# Altium schematic symbol library TC_otii_stlink.SchLib: 24 symbols
Pins are listed as number, name and electrical type; pins without a type are passive.

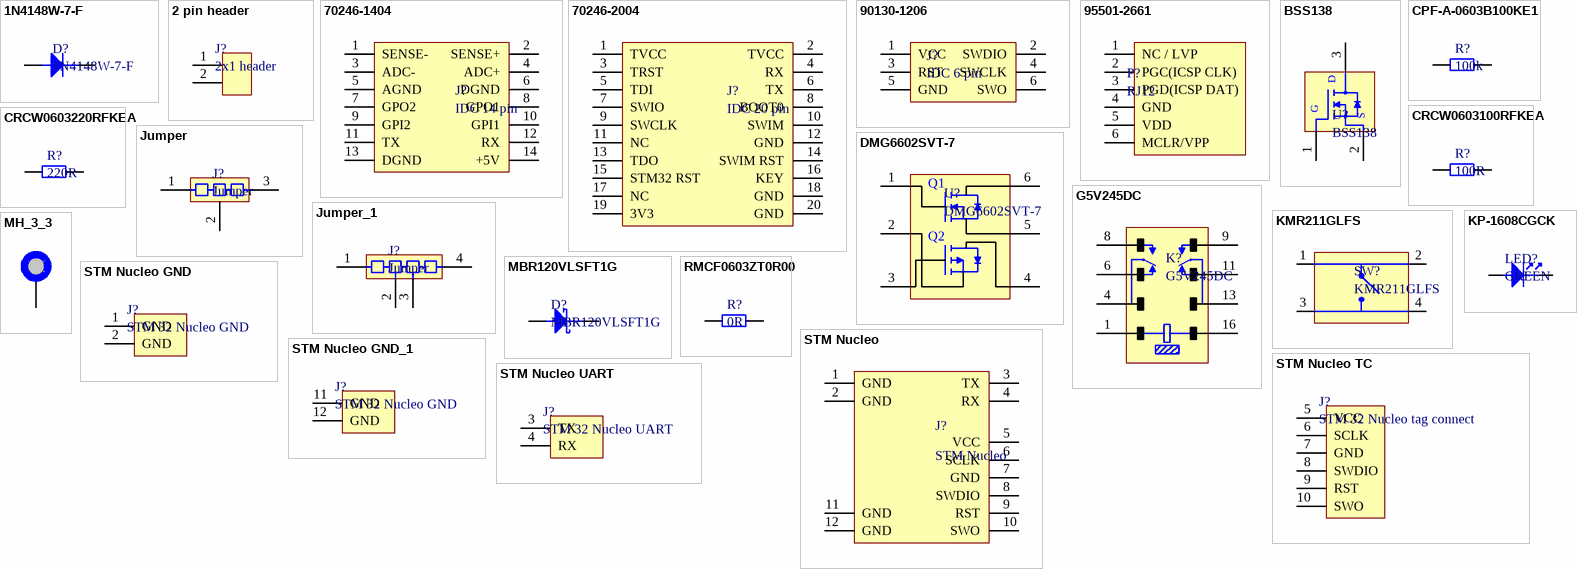
[diagram p0: symbols 1N4148W-7-F to STM Nucleo UART]

## 1N4148W-7-F
designator D?
DIODE GEN PURP 100V 300MA SOD123; Manufacturer: Diodes; Current Rating: 150mA; Max Surge Current: 2A; Peak Reverse Current: 1uA; Recovery Time: 4ns; Forward Voltage: 1.25V; Power Dissipation: 400mW; Element Configuration: Single; Polarity: Standard; Voltage Rating (DC): 75V; Capacitance: 2pF; Supplier 1: Farnell; Manufacturer Part Number: 1N4148W-7-F; Stock 1: 994731; Pricing 1: 5=0.155, 25=0.151, 100=0.0525, 250=0.0496, 500=0.0474, 1000=0.0247, 5000=0.0213 (EUR); Mount: Surface Mount; Number of Pins: 2; Weight: 0.000353oz; Contact Plating: Tin,Matte; Min Operating Temperature: -65°C; Max Operating Temperature: 150°C; Package Quantity: 3000; Packaging: Tape and Reel; Voltage: 100V; Forward Current: 150mA; Average Rectified Current: 300mA; Reverse Recovery Time: 4ns; Max Repetitive Reverse Voltage (Vrrm): 100V; Max Forward Surge Current (Ifsm): 2A; Peak Non-Repetitive Surge Current: 2A; Power Rating: 400mW; Output Current: 150mA; Max Reverse Voltage (DC): 100V; Length: 2.85mm; Height: 1.25mm; Width: 1.7mm; Radiation Hardening: No; Lead Free: Lead Free; REACH SVHC: No SVHC; ComponentLink1URL: https://www.diodes.com/assets/Datasheets/ds30086.pdf?src-supplier=Digi-Key; ComponentLink1Description: https://www.diodes.com/assets/Datasheets/ds30086.pdf?src-supplier=Digi-Key; ComponentLink2URL: http://www.farnell.com/datasheets/1915529.pdf?src-supplier=Element14; ComponentLink2Description: http://www.farnell.com/datasheets/1915529.pdf?src-supplier=Element14; ComponentLink3URL: https://www.diodes.com/assets/Datasheets/ds30086.pdf?src-supplier=Avnet; ComponentLink3Description: https://www.diodes.com/assets/Datasheets/ds30086.pdf?src-supplier=Avnet; ComponentLink4URL: http://www.mouser.com/ds/2/115/ds30086-60872.pdf?src-supplier=Mouser; ComponentLink4Description: http://www.mouser.com/ds/2/115/ds30086-60872.pdf?src-supplier=Mouser; ComponentLink5URL: https://www.diodes.com/assets/Datasheets/ds30086.pdf?src-supplier=Avnet+Europe; ComponentLink5Description: https://www.diodes.com/assets/Datasheets/ds30086.pdf?src-supplier=Avnet+Europe; ComponentLink6URL: https://www.diodes.com/assets/Datasheets/ds30086.pdf?src-supplier=Verical; ComponentLink6Description: https://www.diodes.com/assets/Datasheets/ds30086.pdf?src-supplier=Verical; Supplier Part Number 1: 1776392
footprint 1N4148W-7-F
pins: 1 Cathode, 2 Anode

## 2 pin header
designator J?, comment 2x1 header
footprint 2 pin
pins: 1, 2

## 70246-1404
designator J?, comment IDC 14 pin
Conn Shrouded Header (4 Sides) HDR 14 POS 2.54mm Solder ST Thru-Hole C-Grid® Frame; Manufacturer: Molex; Manufacturer Part Number: 70246-1404; Number of Contacts: 14; Max Voltage Rating (DC): 250V; Current Rating: 2.5A; Gender: Male; Contact Post Length: 3.43mm; Glow Wire Compliant: Non-compliant; Supplier 1: Farnell; Stock 1: 3001; Pricing 1: 1=1.55, 50=1.48, 100=1.42, 250=1.29, 500=1.17, 1000=0.966 (EUR); Mount: Through Hole; Contact Plating: Gold,Tin; Contact Material: Bronze,Gold; Housing Material: Polyester; Min Operating Temperature: -55°C; Max Operating Temperature: 120°C; Number of Rows: 2; Termination: Solder; Packaging: Tray; Number of Positions: 14; Orientation: Vertical; Voltage Rating: 250V; Voltage Rating (DC): 250V; Contact Gender: Male; Number of Circuits: 14; Pitch: 2.54mm; Row Spacing: 2.54mm; Contact Mating Length: 6.1mm; Radiation Hardening: No; REACH SVHC: Unknown; ELV: Compliant; Flammability Rating: UL94 V-0; ComponentLink1URL: http://www.farnell.com/datasheets/2051710.pdf?src-supplier=Element14; ComponentLink1Description: http://www.farnell.com/datasheets/2051710.pdf?src-supplier=Element14; ComponentLink2URL: http://www.molex.com/webdocs/datasheets/pdf/en-us/0702461404_PCB_HEADERS.pdf?src-supplier=Avnet; ComponentLink2Description: http://www.molex.com/webdocs/datasheets/pdf/en-us/0702461404_PCB_HEADERS.pdf?src-supplier=Avnet; ComponentLink3URL: http://uk.rs-online.com/webdocs/13c4/0900766b813c492f.pdf?src-supplier=RSComponents; ComponentLink3Description: http://uk.rs-online.com/webdocs/13c4/0900766b813c492f.pdf?src-supplier=RSComponents; ComponentLink4URL: http://www.mouser.com/ds/2/276/0702461404_PCB_HEADERS-172392.pdf?src-supplier=Mouser; ComponentLink4Description: http://www.mouser.com/ds/2/276/0702461404_PCB_HEADERS-172392.pdf?src-supplier=Mouser; ComponentLink5URL: http://www.molex.com/webdocs/datasheets/pdf/en-us/0702461404_PCB_HEADERS.pdf?src-supplier=Avnet+Europe; ComponentLink5Description: http://www.molex.com/webdocs/datasheets/pdf/en-us/0702461404_PCB_HEADERS.pdf?src-supplier=Avnet+Europe; Supplier Part Number 1: 1392520
footprint IDC 14 PIN
pins: 1 SENSE-, 2 SENSE+, 3 ADC-, 4 ADC+, 5 AGND, 6 DGND, 7 GPO2, 8 GPO1, 9 GPI2, 10 GPI1, 11 TX, 12 RX, 13 DGND, 14 +5V

## 70246-2004
designator J?, comment IDC 20 pin
Headers & Wire Housings 2.54mm CGrid Hdr Shr d /Slt .13AuLF 20Ckt; Manufacturer: Molex; Manufacturer Part Number: 70246-2004; Number of Contacts: 20; Max Voltage Rating (DC): 250V; Current Rating: 2.5A; Gender: Male; Glow Wire Compliant: Non-compliant; Supplier 1: Farnell; Stock 1: 2985; Pricing 1: 1=1.62, 50=1.52, 100=1.41, 250=1.28, 500=1.17, 1000=0.943 (EUR); Mount: Through Hole; Contact Plating: Gold; Contact Material: Gold,Bronze; Min Operating Temperature: -55°C; Max Operating Temperature: 120°C; Number of Rows: 2; Termination: Solder; Packaging: Tray; Number of Positions: 20; Orientation: Vertical; Package Quantity: 720; Voltage Rating (DC): 250V; Voltage Rating: 250V; Number of Circuits: 20; Pitch: 2.54mm; Radiation Hardening: No; REACH SVHC: Unknown; ELV: Compliant; Flammability Rating: UL94 V-0; ComponentLink1URL: http://www.farnell.com/datasheets/2051704.pdf?src-supplier=Element14; ComponentLink1Description: http://www.farnell.com/datasheets/2051704.pdf?src-supplier=Element14; ComponentLink2URL: http://www.mouser.com/ds/2/276/0702462004_PCB_HEADERS-150189.pdf?src-supplier=Mouser; ComponentLink2Description: http://www.mouser.com/ds/2/276/0702462004_PCB_HEADERS-150189.pdf?src-supplier=Mouser; ComponentLink3URL: http://www.molex.com/webdocs/datasheets/pdf/en-us/0702462004_PCB_HEADERS.pdf?src-supplier=Avnet+Europe; ComponentLink3Description: http://www.molex.com/webdocs/datasheets/pdf/en-us/0702462004_PCB_HEADERS.pdf?src-supplier=Avnet+Europe; ComponentLink4URL: http://www.molex.com/webdocs/datasheets/pdf/en-us/0702462004_PCB_HEADERS.pdf?src-supplier=Avnet; ComponentLink4Description: http://www.molex.com/webdocs/datasheets/pdf/en-us/0702462004_PCB_HEADERS.pdf?src-supplier=Avnet; ComponentLink5URL: http://uk.rs-online.com/webdocs/13c4/0900766b813c4938.pdf?src-supplier=RSComponents; ComponentLink5Description: http://uk.rs-online.com/webdocs/13c4/0900766b813c4938.pdf?src-supplier=RSComponents; Supplier Part Number 1: 1392410
footprint IDC 20 pin
pins: 1 TVCC, 2 TVCC, 3 TRST, 4 RX, 5 TDI, 6 TX, 7 SWIO, 8 BOOT0, 9 SWCLK, 10 SWIM, 11 NC, 12 GND, 13 TDO, 14 SWIM RST, 15 STM32 RST, 16 KEY, 17 NC, 18 GND, 19 3V3, 20 GND

## 90130-1206
designator J?, comment IDC 6 pin
Headers & Wire Housings 2.54MM CGRIDIII HDR 6P V DR SHRD AU-E; Manufacturer: Molex; Manufacturer Part Number: 90130-1206; Number of Contacts: 6; Max Voltage Rating (DC): 350.35kV; Contact Resistance: 20mR; Max Voltage Rating (AC): 500V; Current Rating: 3A; Voltage Rating: 350V; Max Current Rating: 3.9A; Insulation Resistance: 5GR; Gender: Male; Glow Wire Compliant: Non-compliant; Supplier 1: Farnell; Stock 1: 1896; Pricing 1: 1=1.07, 50=1, 100=0.934, 250=0.84, 500=0.775, 1000=0.619 (EUR); Mount: Through Hole; Contact Plating: Gold; Contact Material: Brass,Bronze,Copper; Housing Color: Black; Color: Black; Housing Material: Polyester; Material: Glass,Polyester; Min Operating Temperature: -55°C; Max Operating Temperature: 125°C; Number of Rows: 2; Termination: Solder; Packaging: Tray; Number of Positions: 6; Orientation: Vertical; Package Quantity: 2560; Number of Poles: 6; Voltage Rating (AC): 350V; Contact Gender: Male; Working Voltage: 350V; Voltage Rating (DC): 350V; Number of Circuits: 6; Length: 8mm; Height: 4.7mm; Pitch: 2.54mm; Row Spacing: 2.54mm; Depth: 3.94mm; Lead Pitch: 2.54mm; Radiation Hardening: No; REACH SVHC: Unknown; Lead Free: Lead Free; ComponentLink1URL: http://www.mouser.com/ds/2/276/0901301206_PCB_HEADERS-151694.pdf?src-supplier=Mouser; ComponentLink1Description: http://www.mouser.com/ds/2/276/0901301206_PCB_HEADERS-151694.pdf?src-supplier=Mouser; ComponentLink2URL: http://www.jameco.com/Jameco/Products/ProdDS/1978810.pdf?src-supplier=Jameco; ComponentLink2Description: http://www.jameco.com/Jameco/Products/ProdDS/1978810.pdf?src-supplier=Jameco; ComponentLink3URL: http://www.molex.com/webdocs/datasheets/pdf/en-us/0901301206_PCB_HEADERS.pdf?src-supplier=Avnet+Europe; ComponentLink3Description: http://www.molex.com/webdocs/datasheets/pdf/en-us/0901301206_PCB_HEADERS.pdf?src-supplier=Avnet+Europe; ComponentLink4URL: http://www.molex.com/webdocs/datasheets/pdf/en-us/0901301206_PCB_HEADERS.pdf?src-supplier=Avnet; ComponentLink4Description: http://www.molex.com/webdocs/datasheets/pdf/en-us/0901301206_PCB_HEADERS.pdf?src-supplier=Avnet; ComponentLink5URL: http://uk.rs-online.com/webdocs/13c4/0900766b813c4c7b.pdf?src-supplier=RSComponents; ComponentLink5Description: http://uk.rs-online.com/webdocs/13c4/0900766b813c4c7b.pdf?src-supplier=RSComponents; Supplier Part Number 1: 9733884
footprint IDC 6 pin
pins: 1 VCC, 2 SWDIO, 3 RST, 4 SWCLK, 5 GND, 6 SWO

## 95501-2661
designator P?, comment RJ12
MODULAR, JACK, THT, R/A, RJ11, 6P6C; Manufacturer: Molex; Manufacturer Part Number: 95501-2661; Shielding: Unshielded; Max Voltage Rating (DC): 125V; Number of Ports: 1; Current Rating: 1.5A; Gender: Female; Number of Contacts: 6; Insulation Resistance: 500MR; Pitch: 2.54mm; Approvals: UL; Supplier 1: Farnell; Stock 1: 7441; Pricing 1: 10=0.565, 100=0.492, 500=0.443, 1000=0.394, 2500=0.356, 5000=0.344 (EUR); Mount: Through Hole; Contact Plating: Gold; Contact Material: Copper Alloy,Bronze; Housing Material: Thermoplastic; Color: Black; Insulation Material: Polyester; Min Operating Temperature: -40°C; Max Operating Temperature: 80°C; Packaging: Tray; Package Quantity: 3276; Termination: Through Hole; Orientation: Right Angle; Voltage Rating (DC): 125V; Number of Positions: 6; Length: 13.21mm; Depth: 18.1mm; Width: 11.5mm; REACH SVHC: Unknown; Halogen Free: Low Halogen; Lead Free: Lead Free; Flammability Rating: UL94 V-0; ComponentLink1URL: http://uk.rs-online.com/webdocs/13c4/0900766b813c4eac.pdf?src-supplier=RSComponents; ComponentLink1Description: http://uk.rs-online.com/webdocs/13c4/0900766b813c4eac.pdf?src-supplier=RSComponents; ComponentLink2URL: http://www.farnell.com/cad/1597654.pdf?src-supplier=Element14; ComponentLink2Description: http://www.farnell.com/cad/1597654.pdf?src-supplier=Element14; ComponentLink3URL: http://www.mouser.com/ds/2/276/0955012661_MODULAR_JACKS_PLUG-177638.pdf?src-supplier=Mouser; ComponentLink3Description: http://www.mouser.com/ds/2/276/0955012661_MODULAR_JACKS_PLUG-177638.pdf?src-supplier=Mouser; ComponentLink4URL: http://www.onlinecomponents.com/productFiles/mf-MOL/360890955012661_modular_jacks_plug.pdf?src-supplier=Onlinecomponents.com; ComponentLink4Description: http://www.onlinecomponents.com/productFiles/mf-MOL/360890955012661_modular_jacks_plug.pdf?src-supplier=Onlinecomponents.com; Supplier Part Number 1: 1536490
footprint RJ12
pins: 1 NC / LVP, 2 PGC(ICSP CLK), 3 PGD(ICSP DAT), 4 GND, 5 VDD, 6 MCLR/VPP

## BSS138
designator U?
MOSFET N-CH 50V 220MA SOT-23; Manufacturer: ON Semiconductor / Fairchild; Rds On Max: 3.5R; Input Capacitance: 27pF; Nominal Vgs: 1.3V; Number of Elements: 1; Max Power Dissipation: 360mW; Rise Time: 9ns; Turn-Off Delay Time: 20ns; Turn-On Delay Time: 2.5ns; Element Configuration: Single; Gate to Source Voltage (Vgs): 20V; On-State Resistance: 6R; Supplier 1: Farnell; Manufacturer Part Number: BSS138; Stock 1: 727806; Pricing 1: 5=0.286, 50=0.261, 100=0.143, 500=0.0495, 1500=0.0464 (EUR); Mount: Surface Mount; Case/Package: SOT-23; Number of Pins: 3; Weight: 0.03g; Contact Plating: Tin,Matte; Min Operating Temperature: -55°C; Max Operating Temperature: 150°C; Packaging: Tape and Reel; Package Quantity: 1; Dual Supply Voltage: 50V; Drain to Source Voltage (Vdss): 50V; Continuous Drain Current (ID): 220mA; Drain to Source Breakdown Voltage: 50V; Fall Time: 9ns; Drain to Source Resistance: 3.5R; Power Dissipation: 360mW; Threshold Voltage: 1.3V; Termination: SMD/SMT; Voltage Rating (DC): 50V; Current Rating: 220mA; Length: 2.92mm; Height: 0.93mm; Width: 1.3mm; Radiation Hardening: No; REACH SVHC: No SVHC; Lead Free: Lead Free; ComponentLink1URL: https://www.fairchildsemi.com/package-drawings/MA/MA03B.pdf?src-supplier=Digi-Key; ComponentLink1Description: https://www.fairchildsemi.com/package-drawings/MA/MA03B.pdf?src-supplier=Digi-Key; ComponentLink2URL: http://www.farnell.com/datasheets/2163920.pdf?src-supplier=Element14; ComponentLink2Description: http://www.farnell.com/datasheets/2163920.pdf?src-supplier=Element14; ComponentLink3URL: http://www.farnell.com/datasheets/2304519.pdf?src-supplier=Newark; ComponentLink3Description: http://www.farnell.com/datasheets/2304519.pdf?src-supplier=Newark; ComponentLink4URL: https://www.fairchildsemi.com/datasheets/BS/BSS138.pdf?src-supplier=Avnet; ComponentLink4Description: https://www.fairchildsemi.com/datasheets/BS/BSS138.pdf?src-supplier=Avnet; ComponentLink5URL: http://www.farnell.com/datasheets/193736.pdf?src-supplier=Element14; ComponentLink5Description: http://www.farnell.com/datasheets/193736.pdf?src-supplier=Element14; ComponentLink6URL: http://www.fairchildsemi.com/ds/BS/BSS138.pdf?src-supplier=Future+Electronics; ComponentLink6Description: http://www.fairchildsemi.com/ds/BS/BSS138.pdf?src-supplier=Future+Electronics; ComponentLink7URL: http://www.jameco.com/Jameco/Products/ProdDS/784896.pdf?src-supplier=Jameco; ComponentLink7Description: http://www.jameco.com/Jameco/Products/ProdDS/784896.pdf?src-supplier=Jameco; ComponentLink8URL: http://www.fairchildsemi.com/ds/BS/BSS138.pdf?src-supplier=Avnet+Europe; ComponentLink8Description: http://www.fairchildsemi.com/ds/BS/BSS138.pdf?src-supplier=Avnet+Europe; Supplier Part Number 1: 9845330
footprint BSS138
pins: 1 G, 2 S, 3 D

## CPF-A-0603B100KE1
designator R?, comment 100k
TE CONNECTIVITY         CPF-A-0603B100KE1             SMD Chip Resistor, Thin Film, 100 kohm, 50 V, 0603 [1608 Metric], 62.5 mW,  0.1%, CPF-A Series; Resistance: 100kR; Power Rating: 63mW; Voltage Rating: 50V; Temperature Coefficient: 25ppm/°C; Number of Resistors: 1; Supplier 1: Farnell; Manufacturer: TE Connectivity; Manufacturer Part Number: CPF-A-0603B100KE1; Stock 1: 5473; Pricing 1: 1=0.378, 50=0.279, 100=0.21, 250=0.199, 500=0.173, 1000=0.137, 5000=0.111 (EUR); Mount: Surface Mount; Case/Package: 0603; Case Code (Metric): 1608; Case Code (Imperial): 0603; Min Operating Temperature: -55°C; Max Operating Temperature: 155°C; Packaging: Tape and Reel; Composition: Thin Film; Tolerance: 0.1%; Voltage Rating (DC): 50V; Number of Terminations: 2; Termination: Solder; Features: Moisture Resistant,Automotive AEC-Q200,Anti-Sulfur; Max Power Dissipation: 63mW; REACH SVHC: No SVHC; ELV: Compliant; Supplier Part Number 1: 2483881
footprint R0603
pins: 1, 2

## CRCW0603100RFKEA
designator R?, comment 100R
RES SMD 100 OHM 1% 1/10W 0603; Manufacturer: Vishay Dale; Manufacturer Part Number: CRCW0603100RFKEA; Power Rating: 100mW; Temperature Coefficient: 100ppm/°C; Voltage Rating (DC): 75V; Supplier 1: Farnell; Stock 1: 0; Pricing 1: 150=0.0131, 500=0.0114, 1000=0.0068 (EUR); Mount: Surface Mount; Case/Package: 0603; Number of Pins: 2; Weight: 7.1E-05oz; Contact Plating: Tin; Case Code (Metric): 1608; Case Code (Imperial): 0603; Min Operating Temperature: -55°C; Max Operating Temperature: 155°C; Resistance: 100R; Tolerance: 1%; Composition: Thick Film; Packaging: Tape and Reel; Package Quantity: 10; Voltage Rating: 75V; Number of Terminations: 2; Termination: SMD/SMT; Military Standard: Not; Max Power Dissipation: 100mW; Features: Automotive AEC-Q200; Length: 1.55mm; Height: 0.02inch; Width: 0.033inch; Depth: 0.85mm; Radiation Hardening: No; Lead Free: Lead Free; REACH SVHC: Unknown; ComponentLink1URL: http://www.vishay.com/docs/20035/dcrcwe3.pdf?src-supplier=Avnet+Europe; ComponentLink1Description: http://www.vishay.com/docs/20035/dcrcwe3.pdf?src-supplier=Avnet+Europe; ComponentLink2URL: https://www.distrelec.biz/Web/Downloads/a_/en/flD-CRCW-e3_data_en.pdf?mime=application%2Fpdf&src-supplier=Distrelec; ComponentLink2Description: https://www.distrelec.biz/Web/Downloads/a_/en/flD-CRCW-e3_data_en.pdf?mime=application%2Fpdf&src-supplier=Distrelec; ComponentLink3URL: http://www.vishay.com/docs/20035/dcrcwe3.pdf?src-supplier=Digi-Key; ComponentLink3Description: http://www.vishay.com/docs/20035/dcrcwe3.pdf?src-supplier=Digi-Key; ComponentLink4URL: http://www.farnell.com/datasheets/2045673.pdf?src-supplier=Element14; ComponentLink4Description: http://www.farnell.com/datasheets/2045673.pdf?src-supplier=Element14; ComponentLink5URL: http://www.alliedelec.com/m/d/0c934d6939ccefa68dbe0b96d821c8cf.pdf?src-supplier=Allied+Electronics; ComponentLink5Description: http://www.alliedelec.com/m/d/0c934d6939ccefa68dbe0b96d821c8cf.pdf?src-supplier=Allied+Electronics; ComponentLink6URL: http://www.mouser.com/ds/2/427/dcrcwe3-109170.pdf?src-supplier=Mouser; ComponentLink6Description: http://www.mouser.com/ds/2/427/dcrcwe3-109170.pdf?src-supplier=Mouser; ComponentLink7URL: http://www.vishay.com/docs/20035/dcrcwe3.pdf?src-supplier=Future+Electronics; ComponentLink7Description: http://www.vishay.com/docs/20035/dcrcwe3.pdf?src-supplier=Future+Electronics; ComponentLink8URL: http://www.farnell.com/datasheets/2111203.pdf?src-supplier=Element14; ComponentLink8Description: http://www.farnell.com/datasheets/2111203.pdf?src-supplier=Element14; Supplier Part Number 1: 1469752RL
footprint R0603
pins: 1, 2

## CRCW0603220RFKEA
designator R?, comment 220R
RES SMD 220 OHM 1% 1/10W 0603; Manufacturer: Vishay; Manufacturer Part Number: CRCW0603220RFKEA; Temperature Coefficient: 100ppm/°C; Max Power Dissipation: 100mW; Voltage Rating: 75V; Supplier 1: Digi-Key; Stock 1: 0; Case/Package: 0603; Weight: 7.1E-05oz; Contact Plating: Tin; Case Code (Metric): 1608; Case Code (Imperial): 0603; Min Operating Temperature: -55°C; Max Operating Temperature: 155°C; Composition: Thick Film; Resistance: 220R; Tolerance: 1%; Packaging: Tape and Reel; Number of Terminations: 2; Power Rating: 100mW; Package Quantity: 10; Termination: SMD/SMT; Military Standard: Not; Voltage Rating (DC): 75V; Features: Automotive AEC-Q200; Length: 1.55mm; Height: 0.45mm; Width: 0.033inch; Depth: 0.85mm; Radiation Hardening: No; REACH SVHC: Unknown; Lead Free: Lead Free; ComponentLink1URL: http://www.vishay.com/docs/20035/dcrcwe3.pdf?src-supplier=Digi-Key; ComponentLink1Description: http://www.vishay.com/docs/20035/dcrcwe3.pdf?src-supplier=Digi-Key; ComponentLink2URL: http://www.mouser.com/ds/2/427/dcrcwe3-109170.pdf?src-supplier=Mouser; ComponentLink2Description: http://www.mouser.com/ds/2/427/dcrcwe3-109170.pdf?src-supplier=Mouser; ComponentLink3URL: http://www.farnell.com/datasheets/2045673.pdf?src-supplier=Element14; ComponentLink3Description: http://www.farnell.com/datasheets/2045673.pdf?src-supplier=Element14; ComponentLink4URL: http://www.vishay.com/docs/20035/dcrcwe3.pdf?src-supplier=Avnet; ComponentLink4Description: http://www.vishay.com/docs/20035/dcrcwe3.pdf?src-supplier=Avnet; ComponentLink5URL: http://www.vishay.com/docs/20035/dcrcwe3.pdf?src-supplier=Future+Electronics; ComponentLink5Description: http://www.vishay.com/docs/20035/dcrcwe3.pdf?src-supplier=Future+Electronics; ComponentLink6URL: http://uk.rs-online.com/webdocs/0d98/0900766b80d98afc.pdf?src-supplier=RSComponents; ComponentLink6Description: http://uk.rs-online.com/webdocs/0d98/0900766b80d98afc.pdf?src-supplier=RSComponents; ComponentLink7URL: https://www.alliedelec.com/m/d/0c934d6939ccefa68dbe0b96d821c8cf.pdf?src-supplier=Allied+Electronics; ComponentLink7Description: https://www.alliedelec.com/m/d/0c934d6939ccefa68dbe0b96d821c8cf.pdf?src-supplier=Allied+Electronics; ComponentLink8URL: https://www.verical.com/server-webapp/html/getDatasheet?partID=45816&src-supplier=Verical; ComponentLink8Description: https://www.verical.com/server-webapp/html/getDatasheet?partID=45816&src-supplier=Verical; ComponentLink9URL: http://www.vishay.com/docs/20035/dcrcwe3.pdf?src-supplier=Avnet+Europe; ComponentLink9Description: http://www.vishay.com/docs/20035/dcrcwe3.pdf?src-supplier=Avnet+Europe; ComponentLink10URL: https://www.distrelec.biz/Web/Downloads/a_/en/flD-CRCW-e3_data_en.pdf?mime=application%2Fpdf&src-supplier=Distrelec; ComponentLink10Description: https://www.distrelec.biz/Web/Downloads/a_/en/flD-CRCW-e3_data_en.pdf?mime=application%2Fpdf&src-supplier=Distrelec; ComponentLink11URL: http://www.farnell.com/datasheets/2111203.pdf?src-supplier=Element14; ComponentLink11Description: http://www.farnell.com/datasheets/2111203.pdf?src-supplier=Element14; Supplier Part Number 1: 541-220HTR-ND
footprint R0603
pins: 1, 2

## DMG6602SVT-7
designator U?
N & P Channel 30 V 60 mOhm Complementary Pair Enhancement Mode Mosfet-TSOT-23-6; Manufacturer: Diodes; Drain to Source Voltage (Vdss): 30V; Continuous Drain Current (ID): 2.8A; Max Power Dissipation: 840mW; Rds On Max: 60mR; Input Capacitance: 400pF; FET Type: N and P-Channel; Gate to Source Voltage (Vgs): 20V; Rise Time: 5ns; Fall Time: 3ns; Drain to Source Resistance: 140mR; Turn-Off Delay Time: 13ns; Number of Elements: 2; On-State Resistance: 95mR; Supplier 1: Farnell; Manufacturer Part Number: DMG6602SVT-7; Stock 1: 0; Pricing 1: 3000=0.081 (EUR); Mount: Surface Mount; Case/Package: SOT-23-6; Number of Pins: 6; Min Operating Temperature: -55°C; Max Operating Temperature: 150°C; Packaging: Tape and Reel; Package Quantity: 3000; Turn-On Delay Time: 3ns; Drain to Source Breakdown Voltage: 30V; Number of Channels: 2; Length: 2.9mm; Height: 0.9mm; Width: 1.6mm; Radiation Hardening: No; REACH SVHC: No SVHC; Lead Free: Lead Free; ComponentLink1URL: https://4donline.ihs.com/images/VipMasterIC/IC/DIOD/DIOD-S-A0007085180/DIOD-S-A0007085180-1.pdf?src-supplier=Avnet; ComponentLink1Description: https://4donline.ihs.com/images/VipMasterIC/IC/DIOD/DIOD-S-A0007085180/DIOD-S-A0007085180-1.pdf?src-supplier=Avnet; ComponentLink2URL: http://www.mouser.com/ds/2/115/DMG6602SVT-82525.pdf?src-supplier=Mouser; ComponentLink2Description: http://www.mouser.com/ds/2/115/DMG6602SVT-82525.pdf?src-supplier=Mouser; Supplier Part Number 1: 3127557
footprint DMG6602SVT
pins: 1, 2, 3, 4, 5, 6
text: Q1; Q2

## G5V245DC
designator K?
OMRON ELECTRONIC COMPONENTS         G5V-2 4.5DC            Signal Relay, G5V-2 Series, DPDT, 4.5 VDC, 2 A, Through Hole, Non Latching; Contact Current Rating: 2A; Coil Resistance: 40R; Coil Power: 500mW; Coil Voltage (DC): 4.5V; Coil Type: Non-Latching; Supplier 1: Farnell; Manufacturer: Omron; Manufacturer Part Number: G5V245DC; Stock 1: 337; Pricing 1: 1=1.89, 25=1.76, 50=1.24, 250=1.14, 500=1.12 (EUR); Mount: PCB; Contact Material: Silver,Gold; Min Operating Temperature: -25°C; Max Operating Temperature: 65°C; Termination: Through Hole; Switching Current: 2A; Length: 20.5mm; Height: 11.5mm; Depth: 10.1mm; REACH SVHC: Unknown; ComponentLink1URL: http://www.farnell.com/datasheets/724502.pdf?src-supplier=Element14; ComponentLink1Description: http://www.farnell.com/datasheets/724502.pdf?src-supplier=Element14; ComponentLink2URL: https://www.distrelec.biz/Web/Downloads/_t/ds/g5v2_eng_tds.pdf?mime=application%2Fpdf&src-supplier=Distrelec; ComponentLink2Description: https://www.distrelec.biz/Web/Downloads/_t/ds/g5v2_eng_tds.pdf?mime=application%2Fpdf&src-supplier=Distrelec; Supplier Part Number 1: 9949810
footprint G5V245DC
pins: 1, 4, 6, 8, 9, 11, 13, 16

## Jumper
designator J?
3 pin jumper
footprint JUMPER
pins: 1, 2, 3

## Jumper_1
designator J?, comment Jumper
4 pin jumper
footprint jumper4
pins: 1, 2, 3, 4

## KMR211GLFS
designator SW?
SWITCH TACTILE SPST-NO 0.05A 32V; Manufacturer: ITT C&K; Mechanical Life: 200000Cycles; Operating Force: 1.2N; Throw Configuration: SPST; Max Current Rating: 50mA; Power Rating: 1W; Illumination Type: Non-Illuminated,Illuminated; Switch Travel: 0.2mm; Switch Function: Off-Mom; Actuator Type: Standard; Actuator Length: 0.5mm; Supplier 1: Farnell; Manufacturer Part Number: KMR211GLFS; Stock 1: 0; Mount: Surface Mount; Contact Material: Silver; Contact Plating: Silver; Min Operating Temperature: -40°C; Max Operating Temperature: 85°C; Max Voltage Rating (DC): 32V; Termination: Gull Wing; Packaging: Tape and Reel; Orientation: Straight; Contact Current Rating: 50mA; Voltage Rating (DC): 32V; Package Quantity: 1; Current Rating: 50mA; Length: 2.8mm; Depth: 4.6mm; Width: 2.8mm; Radiation Hardening: No; REACH SVHC: No SVHC; Lead Free: Lead Free; ComponentLink1URL: http://uk.rs-online.com/webdocs/129c/0900766b8129c9f0.pdf?src-supplier=RSComponents; ComponentLink1Description: http://uk.rs-online.com/webdocs/129c/0900766b8129c9f0.pdf?src-supplier=RSComponents; ComponentLink2URL: http://www1.futureelectronics.com/doc/C%20-%20K%20COMPONENTS/KMR211GLFS.pdf?src-supplier=Future+Electronics; ComponentLink2Description: http://www1.futureelectronics.com/doc/C%20-%20K%20COMPONENTS/KMR211GLFS.pdf?src-supplier=Future+Electronics; ComponentLink3URL: http://www.farnell.com/datasheets/2044619.pdf?src-supplier=Element14; ComponentLink3Description: http://www.farnell.com/datasheets/2044619.pdf?src-supplier=Element14; ComponentLink4URL: http://www.ck-components.com/14414/kmr2_9aug12.pdf/?src-supplier=Avnet; ComponentLink4Description: http://www.ck-components.com/14414/kmr2_9aug12.pdf/?src-supplier=Avnet; ComponentLink5URL: http://www.ck-components.com/14414/kmr2_9aug12.pdf/?src-supplier=Avnet+Europe; ComponentLink5Description: http://www.ck-components.com/14414/kmr2_9aug12.pdf/?src-supplier=Avnet+Europe; ComponentLink6URL: https://www.ckswitches.com/media/1479/kmr2.pdf?src-supplier=Digi-Key; ComponentLink6Description: https://www.ckswitches.com/media/1479/kmr2.pdf?src-supplier=Digi-Key; ComponentLink7URL: http://www.ckswitches.com/media/1479/kmr2.pdf?src-supplier=Onlinecomponents.com; ComponentLink7Description: http://www.ckswitches.com/media/1479/kmr2.pdf?src-supplier=Onlinecomponents.com; Supplier Part Number 1: 1437635RL
footprint Button
pins: 1, 2, 3, 4

## KP-1608CGCK
designator LED?, comment GREEN
KINGBRIGHT - KP-1608CGCK - LED, 0603, 50MCD, GREEN; Lens Color: Clear; Viewing Angle: 120°; Lens Style: Rectangular,Diffused,Colorless; Dominant Wavelength: 570nm; Number of LEDs: 1; Forward Voltage: 2.1V; Forward Current: 20mA; Supplier 1: Farnell; Manufacturer: Kingbright; Manufacturer Part Number: KP-1608CGCK; Stock 1: 18535; Pricing 1: 5=0.157, 50=0.143, 100=0.0934, 500=0.0789, 1000=0.0621 (EUR); Mount: Surface Mount; Case/Package: 1608; Number of Pins: 2; Color: Green; Luminous Intensity: 50mcd; Wavelength: 570nm; Packaging: Tape and Reel; Length: 0.8mm; Height: 1.1mm; Width: 1.6mm; Radiation Hardening: No; REACH SVHC: No SVHC; ComponentLink1URL: http://www.farnell.com/datasheets/2045956.pdf?src-supplier=Element14; ComponentLink1Description: http://www.farnell.com/datasheets/2045956.pdf?src-supplier=Element14; ComponentLink2URL: http://www.rapidonline.com/pdf/72-8670.pdf?src-supplier=Rapid+Electronics; ComponentLink2Description: http://www.rapidonline.com/pdf/72-8670.pdf?src-supplier=Rapid+Electronics; Supplier Part Number 1: 2290328
footprint LED 0603
pins: 1 Cathode, 2 Anode

## MBR120VLSFT1G
designator D?
DIODE SCHOTTKY 20V 1A SOD123FL; Manufacturer: ON Semiconductor; Max Surge Current: 45A; Forward Voltage: 340mV; Peak Reverse Current: 600uA; Element Configuration: Single; Polarity: Standard; Supplier 1: Farnell; Manufacturer Part Number: MBR120VLSFT1G; Stock 1: 0; Number of Pins: 2; Contact Plating: Tin,Matte; Min Operating Temperature: -65°C; Max Operating Temperature: 125°C; Package Quantity: 3000; Forward Current: 1A; Packaging: Tape and Reel; Max Reverse Leakage Current: 600uA; Average Rectified Current: 1A; Max Repetitive Reverse Voltage (Vrrm): 20V; Max Forward Surge Current (Ifsm): 45A; Peak Non-Repetitive Surge Current: 45A; Voltage Rating (DC): 20V; Current Rating: 1A; Output Current: 1A; Max Reverse Voltage (DC): 20V; Length: 2.9mm; Height: 0.9mm; Width: 1.8mm; Radiation Hardening: No; REACH SVHC: No SVHC; Lead Free: Lead Free; Halogen Free: Halogen Free; ComponentLink1URL: http://www.farnell.com/datasheets/85900.pdf?src-supplier=Element14; ComponentLink1Description: http://www.farnell.com/datasheets/85900.pdf?src-supplier=Element14; ComponentLink2URL: http://www.onsemi.cn/pub_link/Collateral/MBR120VLSFT1-D.PDF?src-supplier=Avnet+Europe; ComponentLink2Description: http://www.onsemi.cn/pub_link/Collateral/MBR120VLSFT1-D.PDF?src-supplier=Avnet+Europe; ComponentLink3URL: https://www.alliedelec.com/m/d/71572cff3445748bb7aa75769c4030bb.pdf?src-supplier=Allied+Electronics; ComponentLink3Description: https://www.alliedelec.com/m/d/71572cff3445748bb7aa75769c4030bb.pdf?src-supplier=Allied+Electronics; ComponentLink4URL: http://www.onsemi.com/pub/Collateral/MBR120VLSFT1-D.PDF?src-supplier=Future+Electronics; ComponentLink4Description: http://www.onsemi.com/pub/Collateral/MBR120VLSFT1-D.PDF?src-supplier=Future+Electronics; ComponentLink5URL: http://www.onsemi.com/pub/Collateral/MBR120VLSFT1-D.PDF?src-supplier=Digi-Key; ComponentLink5Description: http://www.onsemi.com/pub/Collateral/MBR120VLSFT1-D.PDF?src-supplier=Digi-Key; ComponentLink6URL: http://www.onsemi.cn/pub_link/Collateral/MBR120VLSFT1-D.PDF?src-supplier=Avnet+Asia; ComponentLink6Description: http://www.onsemi.cn/pub_link/Collateral/MBR120VLSFT1-D.PDF?src-supplier=Avnet+Asia; Supplier Part Number 1: 2393584
footprint MBR120VLSFT1G
pins: 1 Cathode, 2 Anode

## MH_3_3
designator *, comment Mounting hole 3.3 mm  (value not drawn)
footprint MH_3.3
pins: 1

## RMCF0603ZT0R00
designator R?, comment 0R
RES 0 OHM JUMPER 1/10W 0603; Manufacturer: Stackpole Electronics; Manufacturer Part Number: RMCF0603ZT0R00; Resistance: 0mR; Power Rating: 100mW; Current Rating: 1A; Working Voltage: 75V; Supplier 1: Digi-Key; Stock 1: 0; Mount: Surface Mount; Case/Package: 0603; Case Code (Metric): 1608; Case Code (Imperial): 0603; Contact Plating: Tin,Matte; Min Operating Temperature: -55°C; Max Operating Temperature: 155°C; Packaging: Tape and Reel; Composition: Thick Film; Number of Terminations: 2; Military Standard: Not; Max Power Dissipation: 100mW; Features: Automotive AEC-Q200; Length: 1.55mm; Height: 0.022inch; Width: 0.031inch; Depth: 0.8mm; Radiation Hardening: No; Lead Free: Lead Free; Supplier Part Number 1: RMCF0603ZT0R00-ND
footprint R0603
pins: 1, 2

## STM Nucleo
designator J?
footprint NUCLEO F4 HEADERS
pins: 1 GND, 2 GND, 3 TX, 4 RX, 5 VCC, 6 SCLK, 7 GND, 8 SWDIO, 9 RST, 10 SWO, 11 GND, 12 GND

## STM Nucleo GND
designator J?, comment STM 32 Nucleo GND
footprint NUCLEO F4 HEADERS
pins: 1 GND, 2 GND

## STM Nucleo GND_1
designator J?, comment STM 32 Nucleo GND
footprint NUCLEO F4 HEADERS
pins: 11 GND, 12 GND

## STM Nucleo TC
designator J?, comment STM 32 Nucleo tag connect
footprint NUCLEO F4 HEADERS
pins: 5 VCC, 6 SCLK, 7 GND, 8 SWDIO, 9 RST, 10 SWO

## STM Nucleo UART
designator J?, comment STM 32 Nucleo UART
footprint NUCLEO F4 HEADERS
pins: 3 TX, 4 RX